# Altium footprint library SnapEDApcb.PcbLib: 1 footprints
Each footprint in its own frame and in the unit in brackets; x right, y up, seen from the top. Pads: shape width x height; smd on the part's side, far side on the other; paste and mask are expansions set on the pad; w line width, h text height; cw(c..) or ccw(c..) is an arc to the next point about the centre after c.
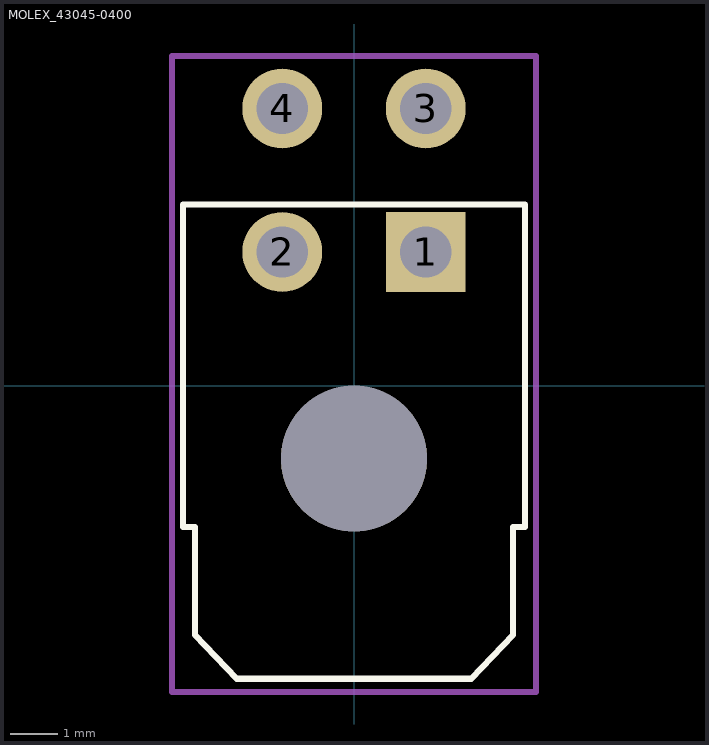
[diagram p0: the footprint, top view; thin cyan lines are the x and y axes]

## MOLEX_43045-0400 [mm]
pads (5):
  rect 1.67x1.67 hole 1.07: 1(1.5,2.8)
  round 1.67 hole 1.07: 2(-1.5,2.8) 3(1.5,5.8) 4(-1.5,5.8)
  round 3.05 hole 3.05 unplated: ""(0,-1.52)
Top Overlay:
  lines w0.127: -3.575,-2.95 -3.325,-2.95 -3.325,-5.2 -2.45,-6.12 2.45,-6.12 3.325,-5.2 3.325,-2.95 3.575,-2.95 3.575,3.79 -3.575,3.79 -3.575,-2.95
Mechanical 15:
  lines w0.127: -3.8,-6.4 -3.8,6.9 3.8,6.9 3.8,-6.4 -3.8,-6.4
3D body "430450400--3DModel-STEP-1.STEP": height 8.77, standoff -3.18, extent -5.07,-6.096 5.08,6.144